# EAGLE library part PP140-80CBS3.00X4.00 (library NewSDR)
Leader Tech 3.00" x 4.00" 40 Series Circuit Board Shield (0.4" high)
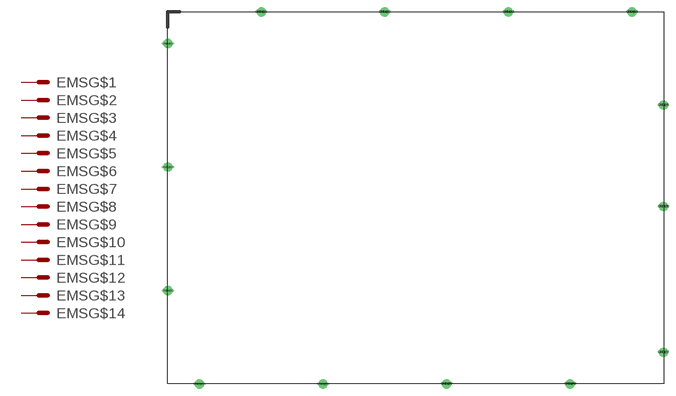
[diagram p23: symbol with the pads of PP140-80CBS3.00X4.00; footprint PP140-80CBS3.00X4.00]

Designator prefix EMS; gates G$1=MS G$2=MS G$3=MS G$4=MS G$5=MS G$6=MS G$7=MS G$8=MS G$9=MS G$10=MS G$11=MS G$12=MS G$13=MS G$14=MS

## PP140-80CBS3.00X4.00  [PP140-80CBS3.00X4.00]
GND@1  G$1:MS  pas
GND@2  G$2:MS  pas
GND@3  G$3:MS  pas
GND@4  G$4:MS  pas
GND@5  G$5:MS  pas
GND@6  G$6:MS  pas
GND@7  G$7:MS  pas
GND@8  G$8:MS  pas
GND@9  G$9:MS  pas
GND@10  G$10:MS  pas
GND@11  G$11:MS  pas
GND@12  G$12:MS  pas
GND@13  G$13:MS  pas
GND@14  G$14:MS  pas

## Footprint PP140-80CBS3.00X4.00 (pad centres in mm)
Leader Tech 3.00" x 4.00" 40 Series Circuit Board Shield (0.4" high)
drill 1.27: GND@1 -33.503,42.52; GND@2 -8.103,42.52; GND@3 17.297,42.52; GND@4 42.697,42.52; GND@5 49.2,23.343; GND@6 49.2,2.489; GND@7 49.2,-27.483; GND@8 29.997,-33.985; GND@9 4.597,-33.985; GND@10 -20.803,-33.985; GND@11 -46.203,-33.985; GND@12 -52.705,-14.783; GND@13 -52.705,10.617; GND@14 -52.705,36.017